# EAGLE library part DSPIC33FJ*GP802 (library DodoMicroRev1)
dsPIC33FJxxGP802 High-Performance, 16-bit Digital Signal Controllers
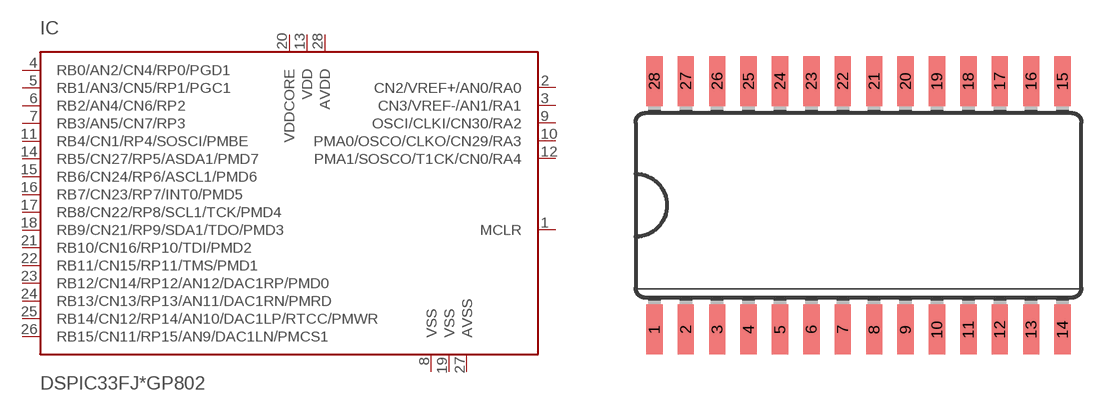
[diagram p7: symbol with the pads of SOIC28; footprint SOIC28]

Designator prefix IC

## DSPIC33FJ128GP802, DSPIC33FJ64GP802  [SOIC28]
1  MCLR
2  CN2/VREF+/AN0/RA0
3  CN3/VREF-/AN1/RA1
4  RB0/AN2/CN4/RP0/PGD1
5  RB1/AN3/CN5/RP1/PGC1
6  RB2/AN4/CN6/RP2
7  RB3/AN5/CN7/RP3
8  VSS  pwr
9  OSCI/CLKI/CN30/RA2
10  PMA0/OSCO/CLKO/CN29/RA3
11  RB4/CN1/RP4/SOSCI/PMBE
12  PMA1/SOSCO/T1CK/CN0/RA4
13  VDD  pwr
14  RB5/CN27/RP5/ASDA1/PMD7
15  RB6/CN24/RP6/ASCL1/PMD6
16  RB7/CN23/RP7/INT0/PMD5
17  RB8/CN22/RP8/SCL1/TCK/PMD4
18  RB9/CN21/RP9/SDA1/TDO/PMD3
19  VSS  pwr
20  VDDCORE  pwr
21  RB10/CN16/RP10/TDI/PMD2
22  RB11/CN15/RP11/TMS/PMD1
23  RB12/CN14/RP12/AN12/DAC1RP/PMD0
24  RB13/CN13/RP13/AN11/DAC1RN/PMRD
25  RB14/CN12/RP14/AN10/DAC1LP/RTCC/PMWR
26  RB15/CN11/RP15/AN9/DAC1LN/PMCS1
27  AVSS  pwr
28  AVDD  pwr

## Footprint SOIC28 (pad centres in mm)
SOIC28
smd 0.66 x 2.032: 1 -6.985,-5.029; 2 -5.715,-5.029; 3 -4.445,-5.029; 4 -3.175,-5.029; 5 -1.905,-5.029; 6 -0.635,-5.029; 7 0.635,-5.029; 8 1.905,-5.029; 9 3.175,-5.029; 10 4.445,-5.029; 11 5.715,-5.029; 12 6.985,-5.029; 13 8.255,-5.029; 14 9.525,-5.029; 15 9.525,5.029; 16 8.255,5.029; 17 6.985,5.029; 18 5.715,5.029; 19 4.445,5.029; 20 3.175,5.029; 21 1.905,5.029; 22 0.635,5.029; 23 -0.635,5.029; 24 -1.905,5.029; 25 -3.175,5.029; 26 -4.445,5.029; 27 -5.715,5.029; 28 -6.985,5.029